# Altium schematic symbol library PLD2-20.Schlib: 1 symbol
Pins are listed as number, name and electrical type; pins without a type are passive.

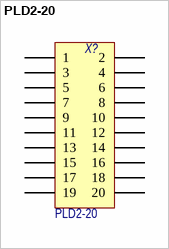
[diagram p0: symbol PLD2-20]

## PLD2-20
designator X?, comment Наименование: PLD2-20  (hidden comment: Header 2X10)
Header, 12-Pin, Dual row; Назначение: Header, 20-Pin, Dual row; Потребление, Вт: 0,0
footprint PLD2-20
footprint PLD2-20R
footprint SD87340-20
footprint PBD2-20s
pins: 1, 2, 3, 4, 5, 6, 7, 8, 9, 10, 11, 12, 13, 14, 15, 16, 17, 18, 19, 20